# Altium footprint library Linear Regulators.PcbLib: 4 footprints
Each footprint in its own frame and in the unit in brackets; x right, y up, seen from the top. Pads: shape width x height; smd on the part's side, far side on the other; paste and mask are expansions set on the pad; w line width, h text height; cw(c..) or ccw(c..) is an arc to the next point about the centre after c.
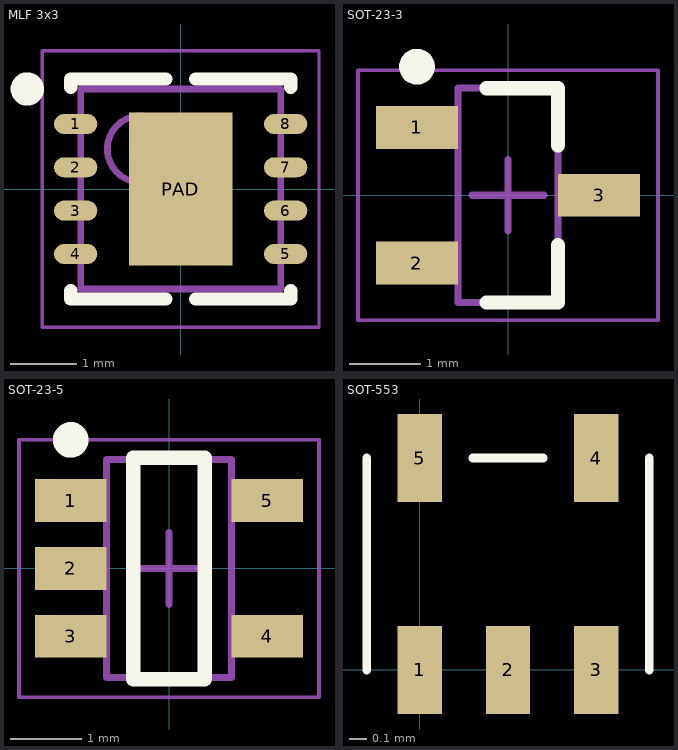
[diagram p0: the footprints below, top view; thin cyan lines are the x and y axes]

## MLF 3x3 [mm] "QFN, 8-Leads, Body 3.00x3.00mm, Pitch 0.65mm, Thermal Pad 1.55x2.30mm, IPC Medium Density"
height 0.85
pads (9):
  oval 0.65x0.3 smd: 1(-1.575,0.975) 2(-1.575,0.325) 3(-1.575,-0.325) 4(-1.575,-0.975) 5(1.575,-0.975) 6(1.575,-0.325) 7(1.575,0.325) 8(1.575,0.975)
  rect 1.55x2.3 smd: PAD(0,0)
Top Overlay:
  circle w0.25: c-2.3,1.5 r0.125
  lines w0.2: -1.65,-1.525 -1.65,-1.65 -0.225,-1.65 ; -1.65,1.525 -1.65,1.65 -0.225,1.65 ; 0.225,-1.65 1.65,-1.65 1.65,-1.525 ; 0.225,1.65 1.65,1.65 1.65,1.525
Mechanical 13:
  circle w0.1: c-0.6,0.6 r0.5
  lines w0.1: -1.5,-1.5 1.5,-1.5 1.5,1.5 -1.5,1.5 -1.5,-1.5
Mechanical 15:
  lines w0.05: -2.075,-2.075 2.075,-2.075 2.075,2.075 -2.075,2.075 -2.075,-2.075
  lines w0.1: -0.5,0 0.5,0
3D body: height 0.85, standoff 0.02, extent -1.5,-1.5 1.5,1.5

## SOT-23-3 [mm]
height 1.2
pads (3):
  rect 1.15x0.6 smd: 1(-1.275,0.95) 2(-1.275,-0.95) 3(1.275,0)
Top Overlay:
  circle w0.25: c-1.275,1.8 r0.125
  lines w0.2: -0.3,-1.5 0.7,-1.5 0.7,-0.7 ; -0.3,1.5 0.7,1.5 0.7,0.7
Mechanical 13:
  lines w0.1: -0.7,-1.5 -0.7,1.5 0.7,1.5 0.7,-1.5 -0.7,-1.5
Mechanical 15:
  lines w0.05: -2.1,-1.75 -2.1,1.75 2.1,1.75 2.1,-1.75 -2.1,-1.75
  lines w0.1: -0.5,0 0.5,0 ; 0,-0.5 0,0.5
3D body: height 1.2, standoff 0.05, extent -0.7,-1.5 0.7,1.5

## SOT-23-5 [mm] "Linear Regulator"
height 1.45
pads (5):
  rect 1x0.6 smd: 1(-1.375,0.95) 2(-1.375,0) 3(-1.375,-0.95) 4(1.375,-0.95) 5(1.375,0.95)
Top Overlay:
  circle w0.25: c-1.375,1.8 r0.125
  lines w0.2: -0.5,-1.55 -0.5,1.55 0.5,1.55 0.5,-1.55 -0.5,-1.55
Mechanical 13:
  lines w0.1: -0.875,-1.525 0.875,-1.525 0.875,1.525 -0.875,1.525 -0.875,-1.525
Mechanical 15:
  lines w0.05: -2.1,-1.8 2.1,-1.8 2.1,1.8 -2.1,1.8 -2.1,-1.8
  lines w0.1: -0.5,0 0.5,0 ; 0,-0.5 0,0.5
3D body: height 1.45, standoff 0.08, extent -0.875,-1.525 0.875,1.525

## SOT-553 [mm] "SOT-553"
height 0.6
pads (5):
  rect 0.25x0.5 smd: 1(0,0) 2(0.5,0) 3(1,0) 4(1,1.2) 5(0,1.2)
Top Overlay:
  lines w0.05: -0.3,0 -0.3,1.2 ; 0.3,1.2 0.7,1.2 ; 1.3,0 1.3,1.2
3D body: height 0.55, standoff 0, extent -0.3,0 1.3,1.2